# EAGLE library part HEADER-2X7 (library 4ms-main-parts)
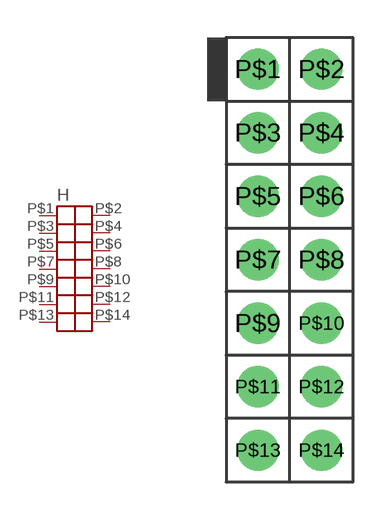
[diagram p24: symbol with the pads of HEADER-2X7-TH; footprint HEADER-2X7-TH]

Designator prefix H

## HEADER-2X7-TH  [HEADER-2X7-TH]
P$1  P$1
P$2  P$2
P$3  P$3
P$4  P$4
P$5  P$5
P$6  P$6
P$7  P$7
P$8  P$8
P$9  P$9
P$10  P$10
P$11  P$11
P$12  P$12
P$13  P$13
P$14  P$14

## Footprint HEADER-2X7-TH (pad centres in mm)
drill 0.9 pad 1.651: P$1 -1.27,7.62; P$2 1.27,7.62; P$3 -1.27,5.08; P$4 1.27,5.08; P$5 -1.27,2.54; P$6 1.27,2.54; P$7 -1.27,0; P$8 1.27,0; P$9 -1.27,-2.54; P$10 1.27,-2.54; P$11 -1.27,-5.08; P$12 1.27,-5.08; P$13 -1.27,-7.62; P$14 1.27,-7.62